# EAGLE library part PIC12*752 (library microchip_pic12f)
Low pincount microcontroller http://www.microchip.com/wwwproducts/Devices.aspx?product=PIC12F752 Properties Parameter Name Value Program Memory Type Flash Program Memory (KB) 1.8 CPU Speed (MIPS) 5 RAM Bytes 64 Capture/Compare/PWM Peripherals 1 CCP Timers 2 x 8-bit, 1 x 16-bit ADC 4 ch, 10-bit Comparators 2 Temperature Range (C) -40 to 125 Operating Voltage Range (V) 2 to 5.5 Pin Count 8 Cap Touch Channels 4 Features Flash Program Memory with self read/write capability Mid-Range Core, Internal 8MHz oscillator 2 x High Speed Analog Comparators (50nS) 1 x Capture-Compare-PWM (CCP) 4 x 10-bit Analog-to-Digital Converter (ADC) with voltage reference, 1 x Dual Range 5-bit Digital-to-Analog Converter (DAC) Complementary Output Generator (COG): Complementary Waveforms from selectable sources Watchdog Timer (WDT) Power-On/Off-Reset, Brown-Out Reset (BOR) In Circuit Serial Programming (ICSP) High Current Source/Sink: 2 pins with 50 mA I/O, 4 pins with 25 mA I/O Wide Operating Voltage of PIC12F752 variant (2.0V – 5.5V) High Voltage PIC12HV752 variant (2.0V – user defined) with internal shunt regulator Library from www.mikroelektroniikka.fi/lbr
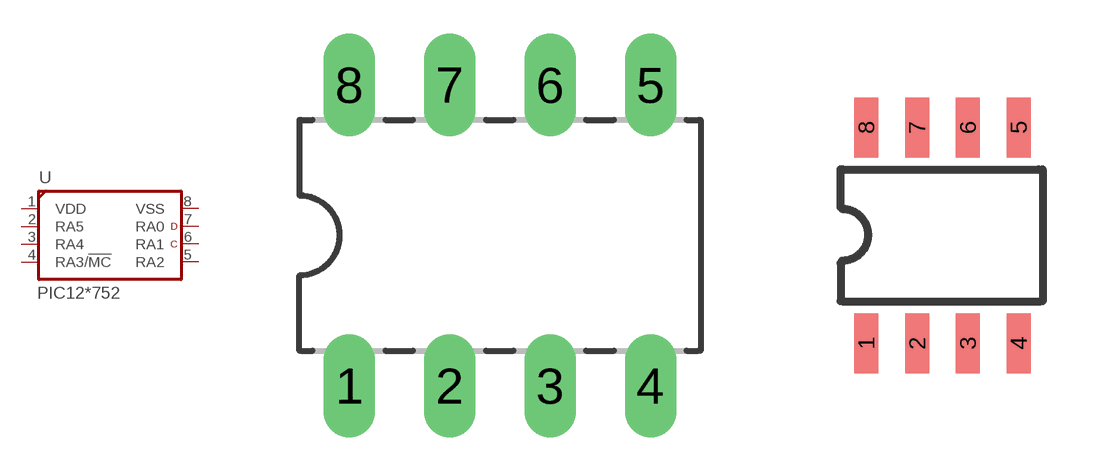
[diagram p13: symbol with the pads of DIL8-P; footprints DIL8-P, SOIC8-SN]

Designator prefix U

## PIC12F752/P, PIC12HV752/P  [DIL8-P]
1  VDD  pas
2  RA5
3  RA4
4  RA3/!MC!
5  RA2
6  RA1
7  RA0
8  VSS  pas

## PIC12F752/SN, PIC12HV752/SN  [SOIC8-SN]
Pads as for DIL8-P

## PIC12F752/MF, PIC12HV752/MF  [DFN8-MF]
1  VDD  pas
2  RA5
3  RA4
4  RA3/!MC!
5  RA2
6  RA1
7  RA0
8  VSS  pas
EP  VSS  pas

## Footprint DIL8-P (pad centres in mm)
PDIP8 (P) 8-Lead plastic dual in line - 300mil body
drill 0.8 pad 1.3 long: 1 -3.81,-3.81; 2 -1.27,-3.81; 3 1.27,-3.81; 4 3.81,-3.81; 5 3.81,3.81; 6 1.27,3.81; 7 -1.27,3.81; 8 -3.81,3.81

## Footprint SOIC8-SN (pad centres in mm)
SOIC8 (SN) 8-Lead plastic small outline - narrow - 3.9 mm body
smd 0.6 x 1.5: 1 -1.905,-2.7; 2 -0.635,-2.7; 3 0.635,-2.7; 4 1.905,-2.7; 5 1.905,2.7; 6 0.635,2.7; 7 -0.635,2.7; 8 -1.905,2.7

## Footprint DFN8-MF (pad centres in mm)
DFN8 (MF) 8-Lead plastic dual flat, no lead package - 3x3x0.9mm (Microchip)
smd 0.35 x 0.475: 1 -0.975,-1.637; 2 -0.325,-1.637; 3 0.325,-1.637; 4 0.975,-1.637; 5 0.975,1.637; 6 0.325,1.637; 7 -0.325,1.637; 8 -0.975,1.637
smd 2.4 x 1.55: EP 0,0